# EAGLE library part BC846BDW1T1 (library ignition)
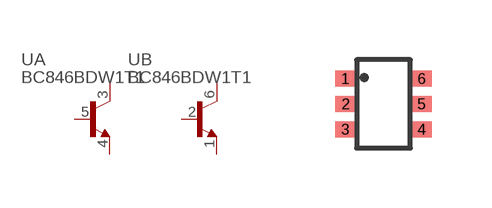
[diagram p1: symbol with the pads of SOT-363; footprint SOT-363]

Designator prefix -; gates A=NPN B=NPN

## BC846BDW1T1  [SOT-363]
1  B:E  pas
2  B:B  pas
3  A:C  pas
4  A:E  pas
5  A:B  pas
6  B:C  pas

## Footprint SOT-363 (pad centres in mm)
smd 0.5 x 0.399: 1 -0.95,0.635; 2 -0.95,0; 3 -0.95,-0.635; 4 0.95,-0.635; 5 0.95,0; 6 0.95,0.635